# Altium schematic symbol library EwgPassive.SchLib: 58 symbols
Pins are listed as number, name and electrical type; pins without a type are passive.

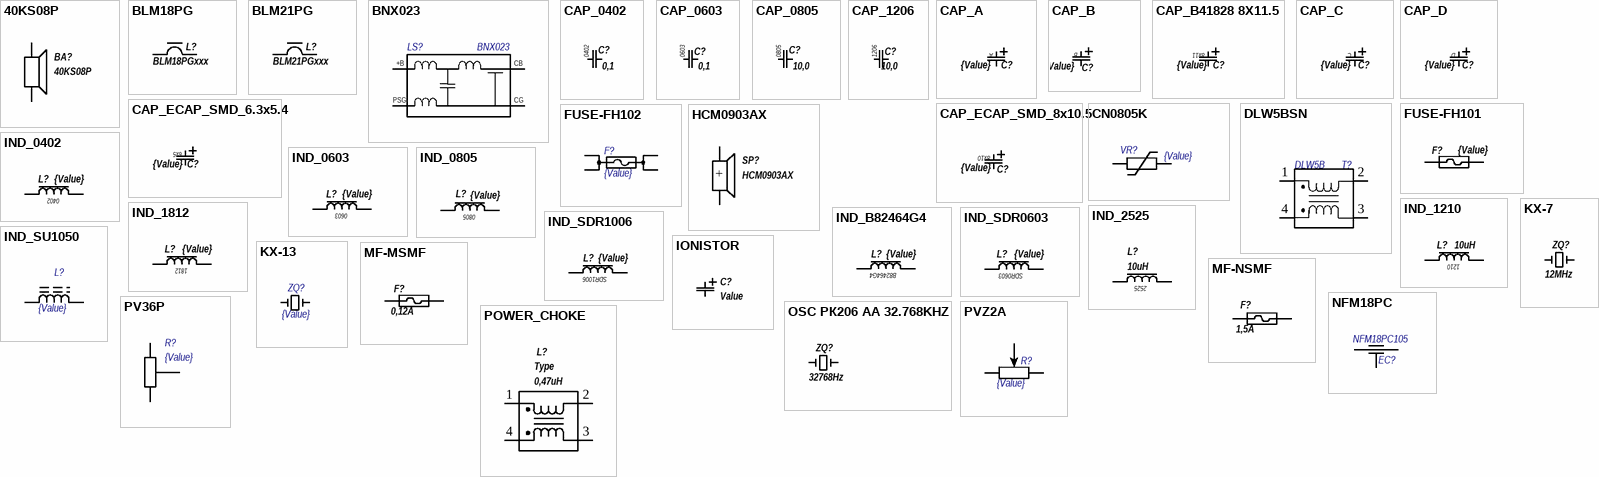
[diagram p0: symbols 40KS08P to PVZ2A]

## 40KS08P
designator BA?
Громкоговоритель; Тип монтажа: Штыревой; Наименование: 40KS08P; Тип компонента: Громкоговоритель
footprint 40KS08P
pins: 1, 2

## BLM18PG
designator L?, comment BLM18PGxxx
Ферритовая бусина; Производитель: Murata; Тип корпуса: 0603; Тип монтажа: Поверхностный; Наименование: BLM18PGxxx; Тип компонента: Ферритовая бусина
footprint FB0603
pins: 1, 2

## BLM21PG
designator L?, comment BLM21PGxxx
Ферритовая бусина; Примечание: Murata; Тип корпуса: 0805; Тип монтажа: Поверхностный; Наименование: BLM21PGxxx; Тип компонента: Ферритовая бусина
footprint FB0805
pins: 1, 2

## BNX023
designator LS?
EMI фильтр; Тип монтажа: Поверхностный; Номинал: BNX023; Тип компонента: EMI фильтр; Value: BNX023
footprint BNX02X
pins: 1 B, 2 CB, 3 PSG, 4 CG
text: +B

## CAP_0402
designator C?, comment 0,1
Конденсатор чип; Тип корпуса: 0402; Тип монтажа: Поверхностный; Номинал: 0,1; Тип компонента: Конденсатор чип
footprint CAP0402
pins: 1, 2

## CAP_0603
designator C?, comment 0,1
Конденсатор чип; Тип корпуса: 0603; Тип монтажа: Поверхностный; Номинал: 0,1; Тип компонента: Конденсатор чип
footprint CAP0603
pins: 1, 2

## CAP_0805
designator C?, comment 10,0
Конденсатор чип; Тип корпуса: 0805; Тип монтажа: Поверхностный; Номинал: 10,0; Тип компонента: Конденсатор чип
footprint CAP0805
pins: 1, 2

## CAP_1206
designator C?, comment 10,0
Конденсатор чип; Тип корпуса: 1206; Тип монтажа: Поверхностный; Номинал: 10,0; Тип компонента: Конденсатор чип
footprint CAP1206
pins: 1, 2

## CAP_A
designator C?, comment {Value}
Конденсатор танталовый; Тип корпуса: Тип A; Тип монтажа: Поверхностный; Тип: A; Номинал: {Value}; Тип компонента: Конденсатор танталовый; Value: {Value}
footprint CAP_A
pins: 1, 2

## CAP_B
designator C?, comment {Value}
Конденсатор танталовый; Тип корпуса: Тип B; Тип монтажа: Поверхностный; Тип: B; Номинал: {Value}; Тип компонента: Конденсатор танталовый; Value: {Value}
footprint CAP_B
pins: 1, 2

## CAP_B41828 8X11.5
designator C?, comment {Value}
Конденсатор электролитический; Производитель: Epcos; Тип монтажа: Штыревой; Тип: 8x11.5; Номинал: {Value}; Тип компонента: Конденсатор электролитический; Value: {Value}
footprint B41828 8X11.5
pins: 1, 2
text: 8x11

## CAP_C
designator C?, comment {Value}
Конденсатор танталовый; Тип корпуса: Тип C; Тип монтажа: Поверхностный; Тип: C; Номинал: {Value}; Тип компонента: Конденсатор танталовый; Value: {Value}
footprint CAP_C
pins: 1, 2

## CAP_D
designator C?, comment {Value}
Конденсатор танталовый; Тип корпуса: Тип D; Тип монтажа: Поверхностный; Тип: D; Номинал: {Value}; Тип компонента: Конденсатор танталовый; Value: {Value}
footprint CAP_D
pins: 1, 2

## CAP_ECAP_SMD_6.3x5.4
designator C?, comment {Value}
Конденсатор электролитический SMD; Производитель: Epcos; Тип корпуса: ECAP SMD 6.3mm x 5.4mm; Тип монтажа: Поверхностный; Номинал: {Value}; Тип компонента: Конденсатор электролитический SMD; Value: {Value}
footprint ECAP SMD 6.3x5.4
pins: 1, 2
text: 6x5

## CAP_ECAP_SMD_8x10.5
designator C?, comment {Value}
Конденсатор электролитический SMD; Производитель: Epcos; Тип корпуса: ECAP SMD 8mm x 10.5mm; Тип монтажа: Поверхностный; Номинал: {Value}; Тип компонента: Конденсатор электролитический SMD; Value: {Value}
footprint ECAP SMD 8x10.5
pins: 1, 2
text: 8x10

## CN0805K
designator VR?  value {Value}  (hidden comment: *)
Варистор; Тип корпуса: 0805; Тип монтажа: Поверхностный; Номинал: {Value}; Тип компонента: Варистор
footprint VAR0805
pins: 1, 2

## DLW5BSN
designator T?  value DLW5B  (hidden comment: *)
Синфазный дроссель; Тип корпуса: 2020; Тип монтажа: Поверхностный; Номинал: DLW5B; Тип компонента: Синфазный дроссель
footprint DLW5BSN
pins: 1, 2, 3, 4

## FUSE-FH101
designator F?  value {Value}  (hidden comment: *)
Предохранитель плавкий; Наименование: Dragon City, FH101; Тип монтажа: Штыревой; Номинал: {Value}; Тип компонента: Предохранитель плавкий
footprint FUSE-FH101
pins: 1, 2

## FUSE-FH102
designator F?  value {Value}  (hidden comment: *)
Предохранитель плавкий; Наименование: Dragon City, FH102; Тип монтажа: Штыревой; Номинал: {Value}; Тип компонента: Предохранитель плавкий
footprint FH102
pins: 1, 2, 3, 4

## HCM0903AX
designator SP?
Зуммер; Производитель: JL World; Тип монтажа: Штыревой; Характеристики: 2-5В 3200Гц с генератором; Наименование: HCM0903AX; Тип компонента: Зуммер
footprint HCM0903
pins: 1 +, 2

## IND_0402
designator L?, comment {Value}
Индуктивность чип; Тип корпуса: 0603; Тип монтажа: Поверхностный; Номинал: {Value}; Тип компонента: Индуктивность чип; Value: {Value}
footprint IND0402 (Footprint not found)
pins: 1, 2
text: 0402

## IND_0603
designator L?, comment {Value}
Индуктивность чип; Тип корпуса: 0603; Тип монтажа: Поверхностный; Номинал: {Value}; Тип компонента: Индуктивность чип; Value: {Value}
footprint IND0603
pins: 1, 2

## IND_0805
designator L?, comment {Value}
Индуктивность чип; Тип корпуса: 0805; Тип монтажа: Поверхностный; Номинал: {Value}; Тип компонента: Индуктивность чип; Value: {Value}
footprint IND0805
pins: 1, 2

## IND_1210
designator L?, comment 10uH
Индуктивность чип; Тип корпуса: 1206; Тип монтажа: Поверхностный; Характеристики: 150мА; Номинал: 10uH; Тип компонента: Индуктивность чип; Value: 10uH
footprint IND1210
pins: 1, 2
text: 1210

## IND_1812
designator L?, comment {Value}
Индуктивность чип; Тип корпуса: 1206; Тип монтажа: Поверхностный; Номинал: {Value}; Тип компонента: Индуктивность чип; Value: {Value}
footprint IND1812
pins: 1, 2
text: 1812

## IND_2525
designator L?, comment 10uH
Индуктивность чип; Тип корпуса: 2525; Тип монтажа: Поверхностный; Характеристики: 3А; Номинал: 10uH; Тип компонента: Индуктивность чип; Value: 10uH
footprint IND2525
pins: 1, 2

## IND_B82464G4
designator L?, comment {Value}
Индуктивность чип; Производитель: Epcos; Тип корпуса: SMT; Тип монтажа: Поверхностный; Номинал: {Value}; Тип компонента: Индуктивность чип; Value: {Value}
footprint B82464G4
pins: 1, 2
text: B82464G4

## IND_SDR0603
designator L?, comment {Value}
Индуктивность чип; Тип корпуса: SDR0603; Тип монтажа: Поверхностный; Номинал: {Value}; Тип компонента: Индуктивность чип; Value: {Value}
footprint SDR0603
pins: 1, 2

## IND_SDR1006
designator L?, comment {Value}
Индуктивность чип; Тип корпуса: SDR1006; Тип монтажа: Поверхностный; Номинал: {Value}; Тип компонента: Индуктивность чип; Value: {Value}
footprint SDR1006
pins: 1, 2

## IND_SU1050
designator L?, comment {Value}
Индуктивность чип; Тип корпуса: SMD; Тип монтажа: Поверхностный; Номинал: {Value}; Тип компонента: Индуктивность чип; Value: {Value}
footprint SU1050 (IND)
pins: 1, 2

## IONISTOR
designator C?, comment Value
Ионистор; Тип монтажа: Поверхностный; Номинал: Value; Тип компонента: Ионистор
footprint DS-621 (Ионистор)
pins: 1, 2

## KX-7
designator ZQ?, comment 12MHz
Кварц; Производитель: Geyer; Тип корпуса: KX-7; Тип монтажа: Поверхностный; Номинал: 12MHz; Тип компонента: Кварц
footprint KX-7
pins: 1, 2 hidden, 3, 4 hidden

## KX-13
designator ZQ?  value {Value}  (hidden comment: *)
Кварц; Наименование: Geyer, KX-13; Тип корпуса: KX-13; Тип монтажа: Поверхностный; Номинал: {Value}; Тип компонента: Кварц
footprint KX-13
pins: 1, 2 hidden, 3, 4 hidden

## MF-MSMF
designator F?, comment 0,12A
Предохранитель самовосстанавливающийся; Производитель: Bourns; Тип корпуса: MF-MSMF; Тип монтажа: Поверхностный; Номинал: 0,12A; Тип компонента: Предохранитель самовосстанавливающийся; Value: 0,12A
footprint MF-MSMF
pins: 1, 2

## MF-NSMF
designator F?, comment 1,5A
Предохранитель самовосстанавливающийся; Производитель: Bourns; Тип корпуса: MF-NSMF; Тип монтажа: Поверхностный; Номинал: 1,5A; Тип компонента: Предохранитель самовосстанавливающийся; Value: 1,5A
footprint MF-NSMF
pins: 1, 2

## NFM18PC
designator EC?, comment NFM18PC105
Проходной конденсатор; Наименование: Murata, NFM18PC; Напряжение: 6.3V; Примечание: NFM18PC105R0J; Тип корпуса: 0603; Тип монтажа: Поверхностный; Номинал: NFM18PC105; Тип компонента: Проходной конденсатор; Value: NFM18PC105
footprint NFM18PC
pins: 1, 2, 3 GND

## OSC РК206 AA 32.768KHZ
designator ZQ?, comment 32768Hz
Кварц; Тип корпуса: PK206 AA; Тип монтажа: Поверхностный; Номинал: 32768Hz; Тип компонента: Кварц
footprint OSC РК206 AA SMD
pins: 1, 2

## POWER_CHOKE
designator L?, comment Type  Номинал: 0,47uH
Синфазный дроссель; Наименование: Type; Тип компонента: Синфазный дроссель
pins: 1, 2, 3, 4

## PV36P
designator R?, comment {Value}
Резистор подстроечный; Наименование: Murata, PV36P; Тип монтажа: Штыревой; Номинал: {Value}; Тип компонента: Резистор подстроечный; Value: {Value}
footprint PV36P (Couple rate)
pins: 1, 2, 3

## PVZ2A
designator R?  value {Value}  (hidden comment: *)
Резистор подстроечный; Наименование: Murata, PVZ2A; Тип монтажа: Штыревой; Номинал: {Value}; Тип компонента: Резистор подстроечный
footprint PVZ2A
pins: 1, 2, 3

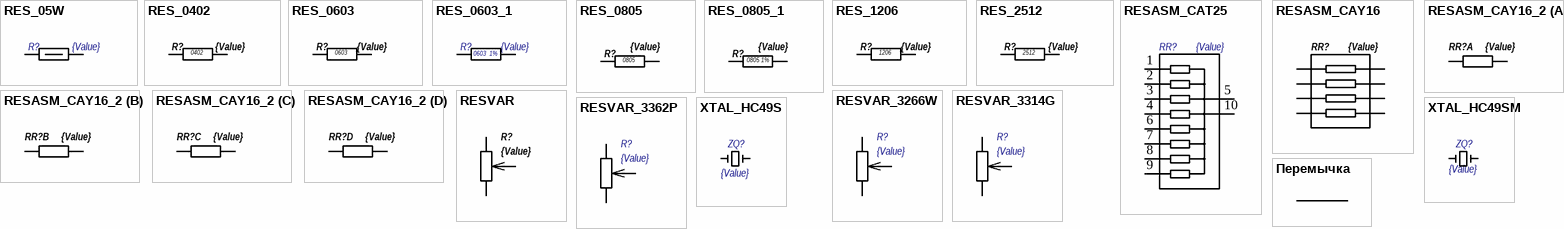
[diagram p1: symbols RES_05W to Перемычка]

## RES_05W
designator R?  value {Value}  (hidden comment: *)
Резистор 1/2W; Наименование: C2-23/ MFR4 0.5W; Тип корпуса: DIP06i; Тип монтажа: Поверхностный; Номинал: {Value}; Тип компонента: Резистор 1/2W
footprint RES_DIP_05W_15mm (Resistor DIP 0.5W 15.2mm)
pins: 1, 2

## RES_0402
designator R?, comment {Value}
Резистор чип; Тип корпуса: 0402; Тип монтажа: Поверхностный; Характеристики: 0.062Вт 50В; Номинал: {Value}; Тип компонента: Резистор чип; Value: {Value}
footprint RES0402
pins: 1, 2

## RES_0603
designator R?, comment {Value}
Резистор чип; Тип корпуса: 0603; Тип монтажа: Поверхностный; Характеристики: 0.1Вт 50В; Номинал: {Value}; Тип компонента: Резистор чип; Value: {Value}
footprint RES0603
pins: 1, 2

## RES_0603_1
designator R?, comment {Value}
Резистор чип; Примечание: 1%; Тип корпуса: 0603; Тип монтажа: Поверхностный; Номинал: {Value}; Тип компонента: Резистор чип; Value: {Value}
footprint RES0603
pins: 1, 2
text: 0603  1%

## RES_0805
designator R?, comment {Value}
Резистор чип; Тип корпуса: 0805; Тип монтажа: Поверхностный; Характеристики: 0.125Вт 150В; Номинал: {Value}; Тип компонента: Резистор чип; Value: {Value}
footprint RES0805
pins: 1, 2

## RES_0805_1
designator R?, comment {Value}
Резистор чип; Тип корпуса: 0805; Тип монтажа: Поверхностный; Характеристики: 0.125Вт 150В; Номинал: {Value} 1%; Тип компонента: Резистор чип; Value: {Value}
footprint RES0805
pins: 1, 2
text: 0805 1%

## RES_1206
designator R?, comment {Value}
Резистор чип; Тип корпуса: 1206; Тип монтажа: Поверхностный; Характеристики: 0.25Вт 200В; Номинал: {Value}; Тип компонента: Резистор чип; Value: {Value}
footprint RES1206
pins: 1, 2

## RES_2512
designator R?, comment {Value}
Резистор чип; Тип корпуса: 2512; Тип монтажа: Поверхностный; Характеристики: 1.0Вт 200В; Номинал: {Value}; Тип компонента: Резистор чип; Value: {Value}
footprint RES2512
pins: 1, 2

## RESASM_CAT25
designator RR?  value {Value}  (hidden comment: *)
Сборка резисторная; Наименование: Bourns, CAT25; Тип монтажа: Поверхностный; Номинал: {Value}; Тип компонента: Сборка резисторная
footprint CAT25
pins: 1, 2, 3, 4, 5, 6, 7, 8, 9, 10

## RESASM_CAY16
designator RR?, comment {Value}
Сборка резисторная; Производитель: Bourns; Тип монтажа: Поверхностный; Параметры: 0.062Вт 50В; Номинал: {Value}; Тип компонента: Сборка резисторная; Value: {Value}
footprint CAY16
pins: 1, 2, 3, 4, 5, 6, 7, 8

## RESASM_CAY16_2
designator RR?, comment {Value}
Сборка резисторная; Производитель: Bourns; Тип монтажа: Поверхностный; Номинал: {Value}; Тип компонента: Сборка резисторная; Value: {Value}
footprint CAY16
part A pins: 1, 8
part B pins: 2, 7
part C pins: 3, 6
part D pins: 4, 5

## RESVAR
designator R?, comment {Value}
Резистор переменный; Тип монтажа: Штыревой; Номинал: {Value}; Тип компонента: Резистор переменный
footprint RESVAR3362P
footprint RESVAR3266W (Couple rate)
pins: 1, 2, 3

## RESVAR_3266W
designator R?  value {Value}  (hidden comment: *)
Резистор переменный; Наименование: Bourns, 3266W; Тип монтажа: Штыревой; Номинал: {Value}; Тип компонента: Резистор переменный
footprint RESVAR3266W (Couple rate)
pins: 1, 2, 3

## RESVAR_3314G
designator R?  value {Value}  (hidden comment: *)
Резистор переменный; Наименование: Bourns, 3314G; Тип монтажа: Поверхностный; Номинал: {Value}; Тип компонента: Резистор переменный
footprint Bourns 3314G
pins: 1, 2, 3

## RESVAR_3362P
designator R?  value {Value}  (hidden comment: *)
Резистор переменный; Наименование: Bourns, 3362P; Тип монтажа: Штыревой; Номинал: {Value}; Тип компонента: Резистор переменный
footprint RESVAR3362P
pins: 1, 2, 3

## XTAL_HC49S
designator ZQ?  value {Value}  (hidden comment: *)
Кварц; Наименование: HC49S; Тип монтажа: Штыревой; Номинал: {Value}; Тип компонента: Кварц
footprint HC49S
pins: 1, 2

## XTAL_HC49SM
designator ZQ?  value {Value}  (hidden comment: *)
Кварц; Наименование: HC49SM; Тип монтажа: Поверхностный; Тип компонента: Кварц; Номинал: {Value}
footprint HC-49SM
pins: 1, 2

## Перемычка
designator *  (value not drawn)
footprint Перемычка
pins: 1, 2